# EAGLE library part 1-794623-8 (library con-amp)
MICRO MATE N LOK Dual Row, grid 1.5 mm Source: http://catalog.tycoelectronics.com .. ENG_CD_794623_F.pdf
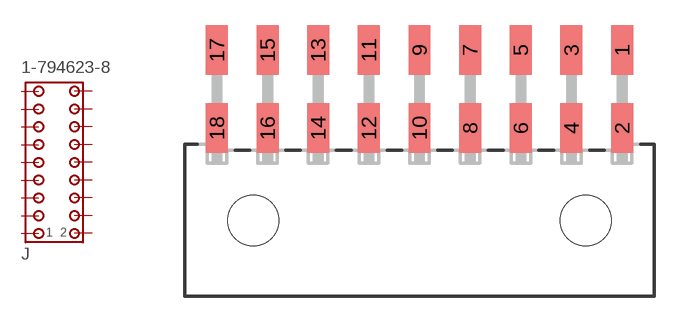
[diagram p152: symbol with the pads of 1-794623-8; footprint 1-794623-8]

Designator prefix J

## 1-794623-8 (MF: TYCO ELECTRONICS; MPN: 1-794623-8; OC_FARNELL: unknown; OC_NEWARK: 10H3686)  [1-794623-8]
1  1  pas
2  2  pas
3  3  pas
4  4  pas
5  5  pas
6  6  pas
7  7  pas
8  8  pas
9  9  pas
10  10  pas
11  11  pas
12  12  pas
13  13  pas
14  14  pas
15  15  pas
16  16  pas
17  17  pas
18  18  pas

## Footprint 1-794623-8 (pad centres in mm)
MICRO MATE N LOK Dual Row, grid 1.5 mm Source: http://catalog.tycoelectronics.com .. ENG_CD_794623_F.pdf
smd 1.3 x 2.92: 1 12,10.1; 2 12,5.48; 3 9,10.1; 4 9,5.48; 5 6,10.1; 6 6,5.48; 7 3,10.1; 8 3,5.48; 9 0,10.1; 10 0,5.48; 11 -3,10.1; 12 -3,5.48; 13 -6,10.1; 14 -6,5.48; 15 -9,10.1; 16 -9,5.48; 17 -12,10.1; 18 -12,5.48
hole 3 at -9.85,0
hole 3 at 9.85,0